# Altium schematic symbol library Macropad.SchLib: 5 symbols
Pins are listed as number, name and electrical type; pins without a type are passive.

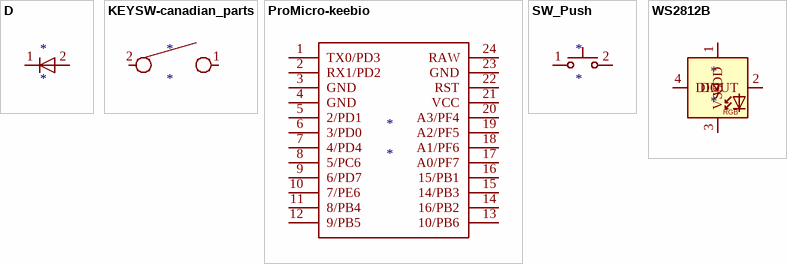
[diagram p0: symbols D to WS2812B]

## D
designator *
footprint Diode
pins: 1 K, 2 A

## KEYSW-canadian_parts
designator *
footprint Socket
pins: 1, 2

## ProMicro-keebio
designator *
footprint Pro-Micro
pins: 1 TX0/PD3, 2 RX1/PD2, 3 GND, 4 GND, 5 2/PD1, 6 3/PD0, 7 4/PD4, 8 5/PC6, 9 6/PD7, 10 7/PE6, 11 8/PB4, 12 9/PB5, 13 10/PB6, 14 16/PB2, 15 14/PB3, 16 15/PB1, 17 A0/PF7, 18 A1/PF6, 19 A2/PF5, 20 A3/PF4, 21 VCC, 22 RST, 23 GND, 24 RAW

## SW_Push
designator *
footprint Reset
pins: 1, 2

## WS2812B
designator *
pins: 1 VDD, 2 DOUT, 3 VSS, 4 DIN
text: RGB